# Altium footprint library micromatch.PcbLib: 8 footprints
Each footprint in its own frame and in the unit in brackets; x right, y up, seen from the top. Pads: shape width x height; smd on the part's side, far side on the other; paste and mask are expansions set on the pad; w line width, h text height; cw(c..) or ccw(c..) is an arc to the next point about the centre after c.
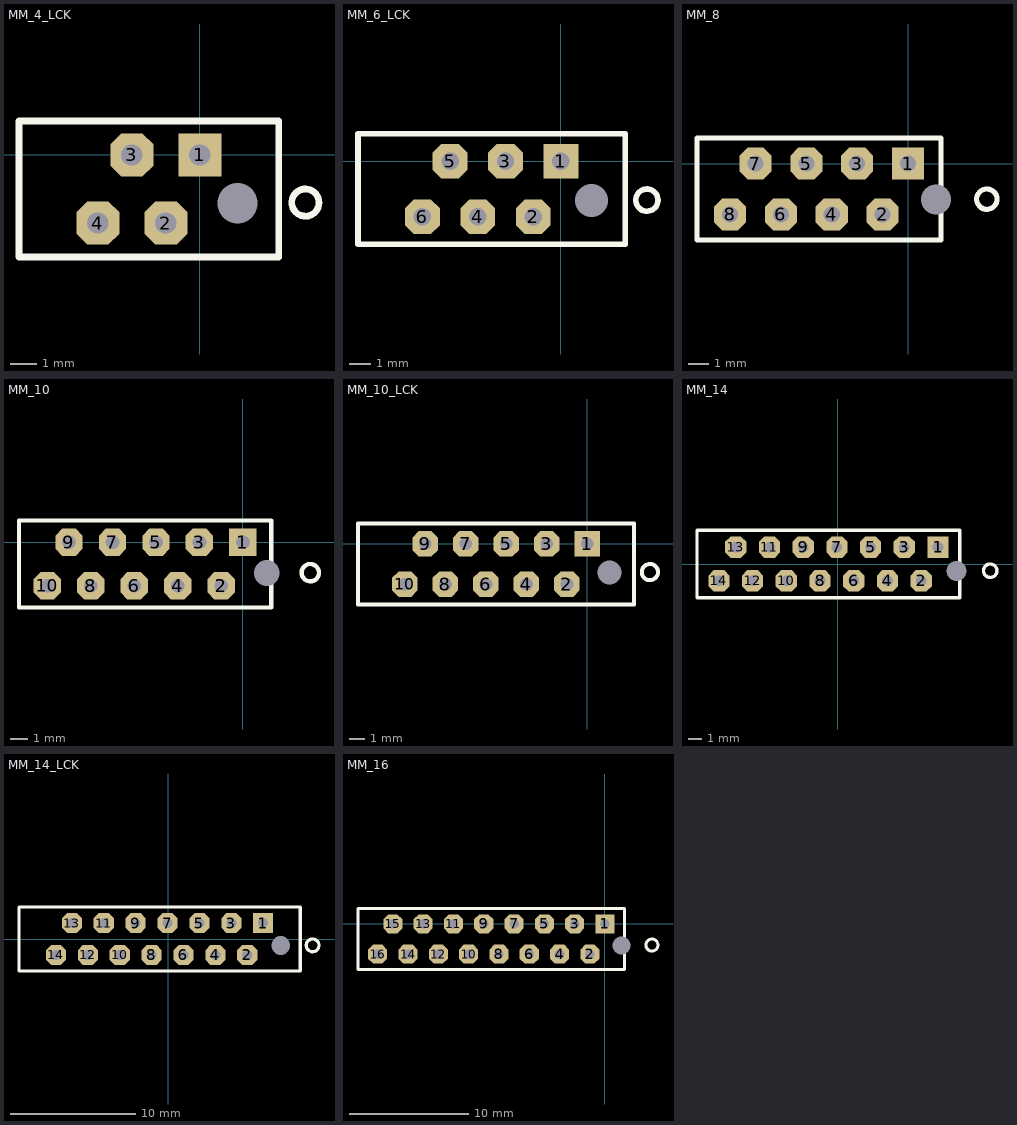
[diagram p0: the footprints below, top view; thin cyan lines are the x and y axes]

## MM_4_LCK [mm] "Wurth Elektronik 690367191072 4pin 2.54"
height 4
pads (5):
  oct 0x0 hole 1.5: 0(1.4,-1.8)
  rect 1.6x1.6 hole 0.8: 1(0,0)
  oct 1.6x1.6 hole 0.8: 2(-1.27,-2.54) 3(-2.54,0) 4(-3.81,-2.54)
Top Overlay:
  circle w0.254: c3.937,-1.778 r0.508
  lines w0.254: -6.755,-3.81 2.945,-3.81 2.945,1.27 -6.755,1.27 -6.755,-3.81
3D body "micro_miniature_connector_a-32-04v-130xl.stp": height 4.2, standoff -2.9, extent -6.753,-3.77 2.921,1.23

## MM_6_LCK [mm] "Wurth Elektronik 690367191072 6pin 2.54"
height 4
pads (7):
  oct 0x0 hole 1.5: 0(1.4,-1.8)
  rect 1.6x1.6 hole 0.8: 1(0,0)
  oct 1.6x1.6 hole 0.8: 2(-1.27,-2.54) 3(-2.54,0) 4(-3.81,-2.54) 5(-5.08,0) 6(-6.35,-2.54)
Top Overlay:
  circle w0.254: c3.937,-1.778 r0.508
  lines w0.254: -9.295,-3.81 2.945,-3.81 2.945,1.27 -9.295,1.27 -9.295,-3.81
3D body "micro_miniature_connector_a-32-06v-130xl.stp": height 4.2, standoff -2.9, extent -9.293,-3.77 2.921,1.23

## MM_8 [mm] "Tyco Micro-Match, 8 Pin"
height 4.1
pads (9):
  round 0 hole 1.5: 0(1.4,-1.8)
  rect 1.6x1.6 hole 0.8: 1(0,0)
  oct 1.6x1.6 hole 0.8: 2(-1.27,-2.54) 3(-2.54,0) 4(-3.81,-2.54) 5(-5.08,0) 6(-6.35,-2.54) 7(-7.62,0) 8(-8.89,-2.54)
Top Overlay:
  circle w0.254: c3.937,-1.778 r0.508
  lines w0.254: -10.541,-3.81 1.651,-3.81 1.651,1.27 -10.541,1.27 -10.541,-3.81
3D body "micro_miniature_connector_a-32-08v-130x0.stp": height 4.2, standoff -2.9, extent -10.525,-3.77 1.635,1.23

## MM_10 [mm] "Tyco Micro-Match, 10 Pin"
height 4.1
pads (11):
  round 0 hole 1.5: 0(1.4,-1.8)
  rect 1.6x1.6 hole 0.8: 1(0,0)
  oct 1.6x1.6 hole 0.8: 2(-1.27,-2.54) 3(-2.54,0) 4(-3.81,-2.54) 5(-5.08,0) 6(-6.35,-2.54) 7(-7.62,0) 8(-8.89,-2.54) 9(-10.16,0) 10(-11.43,-2.54)
Top Overlay:
  circle w0.254: c3.937,-1.778 r0.508
  lines w0.254: -13.081,-3.81 -13.081,1.27 1.651,1.27 1.651,-3.81 -13.081,-3.81
3D body "micro_miniature_connector_a-32-10v-130x0.stp": height 4.2, standoff -2.9, extent -13.065,-3.77 1.635,1.23

## MM_10_LCK [mm] "Wurth Elektronik 690367191072 10pin 2.54"
height 4
pads (11):
  oct 0x0 hole 1.5: 0(1.4,-1.8)
  rect 1.6x1.6 hole 0.8: 1(0,0)
  oct 1.6x1.6 hole 0.8: 2(-1.27,-2.54) 3(-2.54,0) 4(-3.81,-2.54) 5(-5.08,0) 6(-6.35,-2.54) 7(-7.62,0) 8(-8.89,-2.54) 9(-10.16,0) 10(-11.43,-2.54)
Top Overlay:
  circle w0.254: c3.937,-1.778 r0.508
  lines w0.254: -14.375,-3.81 2.945,-3.81 2.945,1.27 -14.375,1.27 -14.375,-3.81
3D body "micro_miniature_connector_a-32-10v-130xl.stp": height 4.2, standoff -2.9, extent -14.489,-3.77 2.805,1.23

## MM_14 [mm] "16 Pin MicroMatch Connector Without Lock: TE-CONNECTIVITY 8-215079-4 or AMPHENOL TMM-4-0-14-2"
height 4.1
pads (15):
  round 0 hole 1.5: 0(8.955,-0.53)
  rect 1.6x1.6 hole 0.8: 1(7.555,1.27)
  oct 1.6x1.6 hole 0.8: 2(6.285,-1.27) 3(5.015,1.27) 4(3.745,-1.27) 5(2.475,1.27) 6(1.205,-1.27) 7(-0.065,1.27) 8(-1.335,-1.27) 9(-2.605,1.27) 10(-3.875,-1.27) 11(-5.145,1.27) 12(-6.415,-1.27) 13(-7.685,1.27) 14(-8.955,-1.27)
Top Overlay:
  circle w0.254: c11.492,-0.508 r0.508
  lines w0.254: -10.606,-2.54 -10.606,2.54 9.206,2.54 9.206,-2.54 -10.606,-2.54
3D body "micro_miniature_connector_a-32-14v-130x0.stp": height 4.2, standoff -2.9, extent -10.59,-2.5 9.19,2.5

## MM_14_LCK [mm] "16 Pin MicroMatch Connector With Lock: AMPHENOL TMM-4-L-14-2"
height 4.1
pads (15):
  round 0 hole 1.5: 0(8.955,-0.53)
  rect 1.6x1.6 hole 0.8: 1(7.555,1.27)
  oct 1.6x1.6 hole 0.8: 2(6.285,-1.27) 3(5.015,1.27) 4(3.745,-1.27) 5(2.475,1.27) 6(1.205,-1.27) 7(-0.065,1.27) 8(-1.335,-1.27) 9(-2.605,1.27) 10(-3.875,-1.27) 11(-5.145,1.27) 12(-6.415,-1.27) 13(-7.685,1.27) 14(-8.955,-1.27)
Top Overlay:
  circle w0.254: c11.492,-0.508 r0.508
  lines w0.254: -11.9,-2.54 10.5,-2.54 10.5,2.54 -11.9,2.54 -11.9,-2.54
3D body "micro_miniature_connector_a-32-14v-130xl.stp": height 4.2, standoff -2.9, extent -11.887,-2.5 10.487,2.5

## MM_16 [mm] "16 Pin MicroMatch Connector Without Lock: TE-CONNECTIVITY 1-215079-6 or AMPHENOL TMM-4-0-16-2"
height 4.1
pads (17):
  round 0 hole 1.5: 0(1.4,-1.8)
  rect 1.6x1.6 hole 0.8: 1(0,0)
  oct 1.6x1.6 hole 0.8: 2(-1.27,-2.54) 3(-2.54,0) 4(-3.81,-2.54) 5(-5.08,0) 6(-6.35,-2.54) 7(-7.62,0) 8(-8.89,-2.54) 9(-10.16,0) 10(-11.43,-2.54) 11(-12.7,0) 12(-13.97,-2.54) 13(-15.24,0) 14(-16.51,-2.54) 15(-17.78,0) 16(-19.05,-2.54)
Top Overlay:
  circle w0.254: c3.937,-1.778 r0.508
  lines w0.254: -20.701,-3.81 -20.701,1.27 1.651,1.27 1.651,-3.81 -20.701,-3.81
3D body "micro_miniature_connector_a-32-16v-130x0.stp": height 4.2, standoff -2.9, extent -20.685,-3.77 1.635,1.23